# Altium schematic symbol library Schlib1.SchLib: 1 symbol
Pins are listed as number, name and electrical type; pins without a type are passive.

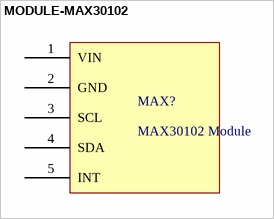
[diagram p0: symbol MODULE-MAX30102]

## MODULE-MAX30102
designator MAX?, comment MAX30102 Module
MAX30102, Heart Rate Module
footprint MAX30102-MODULE (MAX30102, Heart Rate Module)
pins: 1 VIN, 2 GND, 3 SCL, 4 SDA, 5 INT